# EAGLE library part RJ11-6 (library Batebit)
RJ11 Jack Simple 6 pin RJ11 jack. Commonly found on CAT3 devices and Microchip programmers. SKU: PRT-00132
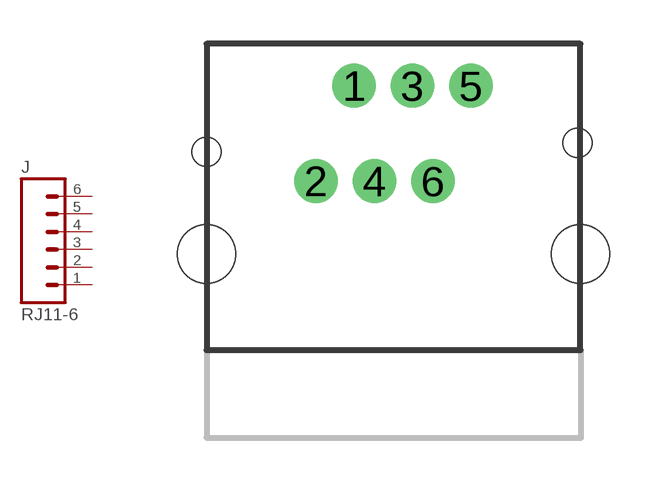
[diagram p3: symbol with the pads of RJ11-6; footprint RJ11-6]

Designator prefix J

## RJ11-6PTH (PROD_ID: CONN-08590; VALUE: RJ11)  [RJ11-6]
1  1  pas
2  2  pas
3  3  pas
4  4  pas
5  5  pas
6  6  pas

## Footprint RJ11-6 (pad centres in mm)
drill 0.6 pad 1.5: 1 5.05,12.065; 2 3.75,8.8; 3 7.05,12.065; 4 5.75,8.8; 5 9.05,12.065; 6 7.75,8.8
hole 2 at 0,6.3
hole 2 at 12.8,6.3
hole 2 at 0,6.3
hole 1 at 12.7,10.11
hole 1 at 0,9.8